# Altium schematic symbol library WG-LOCK.SCHLIB: 34 symbols
Pins are listed as number, name and electrical type; pins without a type are passive.

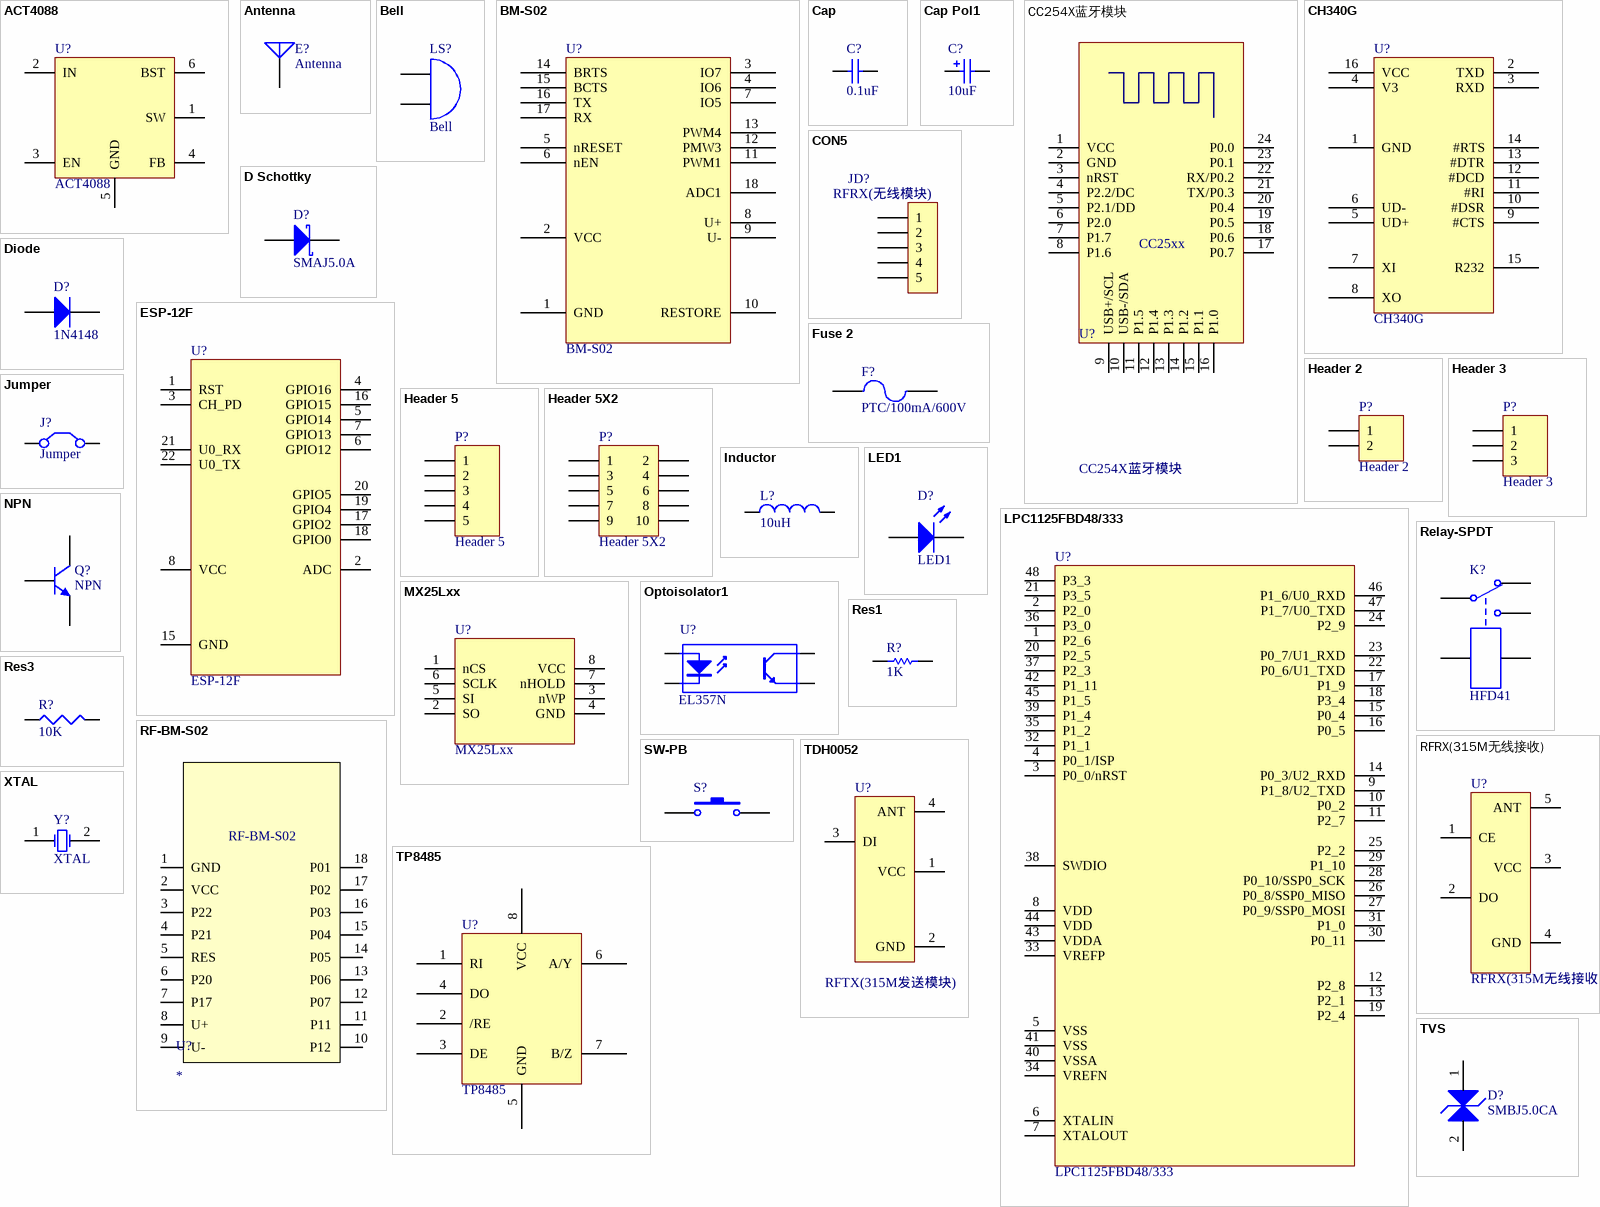
[diagram p0: symbols ACT4088 to XTAL]

## ACT4088
designator U?
footprint SOT23-6l
pins: 1 SW, 2 IN, 3 EN, 4 FB, 5 GND, 6 BST

## Antenna
designator E?
Generic Antenna; Published: 24-Mar-1999; LatestRevisionDate: 17-Jul-2002; LatestRevisionNote: Re-released for DXP Platform.; PackageReference: PIN1; Publisher: Altium Limited
footprint ant
pins: 1 A

## Bell
designator LS?
Electrical Bell; Published: 24-Mar-1999; LatestRevisionDate: 17-Jul-2002; LatestRevisionNote: Re-released for DXP Platform.; PackageReference: PIN2; Publisher: Altium Limited
footprint BZ_D12
pins: 1 A, 2 B

## BM-S02
designator U?
footprint RF-BM-S02
pins: 1 GND, 2 VCC, 3 IO7, 4 IO6, 5 nRESET, 6 nEN, 7 IO5, 8 U+, 9 U-, 10 RESTORE, 11 PWM1, 12 PMW3, 13 PWM4, 14 BRTS, 15 BCTS, 16 TX, 17 RX, 18 ADC1

## Cap
designator C?, comment 0.1uF
Capacitor; Value: 100pF; Published: 8-Jun-2000; LatestRevisionDate: 17-Jul-2002; LatestRevisionNote: Re-released for DXP Platform.; PackageReference: RAD-0.3; Publisher: Altium Limited; PackageDescription: Radial Cap, Thru-Hole; 2 Leads; 0.3 in Pin Spacing
footprint cap_0805 (SMD_CAP_0805)
pins: 1, 2

## Cap Pol1
designator C?, comment 10uF
Polarized Capacitor (Radial); Value: 100pF; Published: 8-Jun-2000; LatestRevisionDate: 17-Jul-2002; LatestRevisionNote: Re-released for DXP Platform.; PackageReference: RB7.6-15; Publisher: Altium Limited; PackageDescription: Polarized Capacitor (Radial); 2 Leads
footprint cap_1206
pins: 1, 2
1 alternate drawing of the same symbol

## CC254X蓝牙模块
designator U?
footprint CC25xx蓝牙模块
pins: 1 VCC, 2 GND, 3 nRST, 4 P2.2/DC, 5 P2.1/DD, 6 P2.0, 7 P1.7, 8 P1.6, 9 USB+/SCL, 10 USB-/SDA, 11 P1.5, 12 P1.4, 13 P1.3, 14 P1.2, 15 P1.1, 16 P1.0, 17 P0.7, 18 P0.6, 19 P0.5, 20 P0.4, 21 TX/P0.3, 22 RX/P0.2, 23 P0.1, 24 P0.0
text: CC25xx

## CH340G
designator U?
footprint SOP16_39MM
pins: 1 GND, 2 TXD, 3 RXD, 4 V3, 5 UD+, 6 UD-, 7 XI, 8 XO, 9 #CTS, 10 #DSR, 11 #RI, 12 #DCD, 13 #DTR, 14 #RTS, 15 R232, 16 VCC

## CON5
designator JD?, comment RFRX(无线模块)
Connector
footprint RFRX
pins: 1, 2, 3, 4, 5

## D Schottky
designator D?, comment SMAJ5.0A
Schottky Diode; Published: 8-Jun-2000; LatestRevisionDate: 17-Jul-2002; LatestRevisionNote: Re-released for DXP Platform.; PackageReference: SMB; Publisher: Altium Limited; PackageDescription: DO-214-AA/SMB; 2 C-Bend Leads; Body 5.3 x 3.6 mm, inc. leads (LxW); Code_JEDEC: DO-214-AA
footprint SMAJ_A
pins: 1 A, 2 K

## Diode
designator D?, comment 1N4148
Default Diode; Published: 8-Jun-2000; LatestRevisionDate: 17-Jul-2002; LatestRevisionNote: Re-released for DXP Platform.; PackageVersion: Sep-1996; PackageReference: SMC; Publisher: Altium Limited; PackageDescription: DO-214-AB/SMC; 2 C-Bend Leads; Body 7.9 x 5.9 mm, inc. leads (LxW); Code_JEDEC: DO-214-AB
footprint 1n4148 (1N4148)
pins: 1 A, 2 K

## ESP-12F
designator U?
footprint WIFI-ESP
pins: 1 RST, 2 ADC, 3 CH_PD, 4 GPIO16, 5 GPIO14, 6 GPIO12, 7 GPIO13, 8 VCC, 15 GND, 16 GPIO15, 17 GPIO2, 18 GPIO0, 19 GPIO4, 20 GPIO5, 21 U0_RX, 22 U0_TX

## Fuse 2
designator F?, comment PTC/100mA/600V
Fuse; Published: 8-Jun-2000; LatestRevisionDate: 17-Jul-2002; LatestRevisionNote: Re-released for DXP Platform.; PackageReference: PIN-W2/E2.8; Publisher: Altium Limited; PackageDescription: Thru-Hole; 2 Leads
footprint SMD_POLYSWITCH
pins: 1, 2

## Header 2
designator P?
Header, 2-Pin; LatestRevisionDate: 17-Jul-2002; LatestRevisionNote: Re-released for DXP Platform.; Publisher: Altium Limited
footprint CN_1X2_P200 (DIP_CN_1X2_P200)
pins: 1, 2

## Header 3
designator P?
Header, 3-Pin; LatestRevisionDate: 17-Jul-2002; LatestRevisionNote: Re-released for DXP Platform.; Publisher: Altium Limited
footprint CN_1X3_P200
pins: 1, 2, 3

## Header 5
designator P?
Header, 5-Pin; LatestRevisionDate: 17-Jul-2002; LatestRevisionNote: Re-released for DXP Platform.; Publisher: Altium Limited
footprint CN_1X5_P200
pins: 1, 2, 3, 4, 5

## Header 5X2
designator P?
Header, 5-Pin, Dual row; LatestRevisionDate: 17-Jul-2002; LatestRevisionNote: Re-released for DXP Platform.; Publisher: Altium Limited
footprint HDR2X5 (Connector; Header; 5x2 Position)
pins: 1, 2, 3, 4, 5, 6, 7, 8, 9, 10

## Inductor
designator L?, comment 10uH
Inductor; Code_IEC: 1005; Value: 10mH; Published: 8-Jun-2000; LatestRevisionDate: 29-May-2009; LatestRevisionNote: IPC-7351 Footprint Added.; PackageReference: 0402-A; Publisher: Altium Limited; PackageDescription: Chip Inductor; Code_JEITA: 0402
footprint SMD_L_3015 (SMD_3015)
footprint INDC1608L (Chip Inductor, Body 1.6x0.8mm, IPC High Density)
footprint 2029 (Chip Inductor, Body 2.0x1.2mm, IPC High Density)
footprint 0603 (Chip Inductor, Body 0.6x0.3mm, IPC High Density)
footprint INDC3216 (Chip Inductor, Body 3.2x1.6mm, IPC High Density)
footprint INDC4532 (Chip Inductor, Body 4.5x3.2mm, IPC High Density)
pins: 1, 2

## Jumper
designator J?
Jumper Wire; Published: 24-Mar-1999; LatestRevisionDate: 17-Jul-2002; LatestRevisionNote: Re-released for DXP Platform.; PackageReference: RAD-0.2; Publisher: Altium Limited; PackageDescription: Radial Cap, Thru-Hole; 2 Leads; 0.2 in Pin Spacing
footprint HDR1X2 (Connector; Header; 2 Position)
pins: 1 C1, 2 C2

## LED1
designator D?
Typical RED GaAs LED; Published: 8-Jun-2000; LatestRevisionDate: 08-Jul-2005; LatestRevisionNote: Mech Layer 1 removed.; PackageReference: LED-1; Publisher: Altium Limited; PackageDescription: LED; 2 Leads
footprint LED - D
pins: 1 A, 2 K

## LPC1125FBD48/333
designator U?
pins: 1 P2_6, 2 P2_0, 3 P0_0/nRST, 4 P0_1/ISP, 5 VSS, 6 XTALIN, 7 XTALOUT, 8 VDD, 9 P1_8/U2_TXD, 10 P0_2, 11 P2_7, 12 P2_8, 13 P2_1, 14 P0_3/U2_RXD, 15 P0_4, 16 P0_5, 17 P1_9, 18 P3_4, 19 P2_4, 20 P2_5, 21 P3_5, 22 P0_6/U1_TXD, 23 P0_7/U1_RXD, 24 P2_9, 25 P2_2, 26 P0_8/SSP0_MISO, 27 P0_9/SSP0_MOSI, 28 P0_10/SSP0_SCK, 29 P1_10, 30 P0_11, 31 P1_0, 32 P1_1, 33 VREFP, 34 VREFN, 35 P1_2, 36 P3_0, 37 P2_3, 38 SWDIO, 39 P1_4, 40 VSSA, 41 VSS, 42 P1_11, 43 VDDA, 44 VDD, 45 P1_5, 46 P1_6/U0_RXD, 47 P1_7/U0_TXD, 48 P3_3

## MX25Lxx
designator U?
footprint SOIC8-50X204
pins: 1 nCS, 2 SO, 3 nWP, 4 GND, 5 SI, 6 SCLK, 7 nHOLD, 8 VCC

## NPN
designator Q?
NPN Bipolar Transistor; Published: 8-Jun-2000; LatestRevisionDate: 17-Jul-2002; LatestRevisionNote: Re-released for DXP Platform.; PackageReference: TO-226-AA; Publisher: Altium Limited; PackageDescription: TO, Flat Index; 3 In-Line, Axial Leads; Body Dia. 4.8mm; Leads 0.55 x 0.51 mm (max); Code_JEDEC: TO-226-AA
footprint SOT23
pins: 1 C, 2 B, 3 E

## Optoisolator1
designator U?, comment EL357N
4-Pin Phototransistor Optocoupler; Published: 24-Mar-1999; LatestRevisionDate: 04-Mar-2005; LatestRevisionNote: Sch pins 3 & 4 Swapped.; DatasheetVersion: Nov-2003; PackageReference: DIP-4; Publisher: Altium Limited
footprint SOP4
pins: 1 A "Anode", 2 K "Cathode", 3 E "Emitter", 4 C "Collector"

## Relay-SPDT
designator K?, comment HFD41
Single-Pole Dual-Throw Relay; Published: 24-Mar-1999; LatestRevisionDate: 17-Jul-2002; LatestRevisionNote: Re-released for DXP Platform.; PackageReference: MODULE5B; Publisher: Altium Limited
footprint HFD23
pins: 1, 2, 3, 4, 5

## Res1
designator R?, comment 1K
Resistor; Published: 8-Jun-2000; LatestRevisionDate: 17-Jul-2002; LatestRevisionNote: Re-released for DXP Platform.; PackageReference: AXIAL-0.3; Publisher: Altium Limited; PackageDescription: Axial Device, Thru-Hole; 2 Leads; 0.3 in Pin Spacing; Value: 1K
footprint RES_0805
pins: 1, 2

## Res3
designator R?, comment 10K
Resistor; Value: 1K; Published: 8-Jun-2000; LatestRevisionDate: 29-May-2009; LatestRevisionNote: IPC-7351 Footprint Added.; PackageReference: J1-0603; Publisher: Altium Limited; PackageDescription: Chip Resistor
footprint RES_0805
footprint 14-1210 (Chip Resistor, Body 3.2x2.5mm, IPC High Density)
footprint 12Z-2010 (Chip Resistor, Body 5.0x2.5mm, IPC High Density)
footprint RESC6332 (Chip Resistor, Body 6.3x3.2mm, IPC High Density)
pins: 1, 2

## RF-BM-S02
designator U?
pins: 1 GND, 2 VCC, 3 P22, 4 P21, 5 RES, 6 P20, 7 P17, 8 U+, 9 U-, 10 P12, 11 P11, 12 P07, 13 P06, 14 P05, 15 P04, 16 P03, 17 P02, 18 P01

## RFRX(315M无线接收)
designator U?
footprint RFRX
pins: 1 CE, 2 DO, 3 VCC, 4 GND, 5 ANT

## SW-PB
designator S?  (value not drawn)
Switch; Published: 24-Mar-1999; LatestRevisionDate: 17-Jul-2002; LatestRevisionNote: Re-released for DXP Platform.; PackageReference: SPST-2; Publisher: Altium Limited; PackageDescription: Switch; 2 Leads
footprint SPST-2 (Switch; 2 Leads)
footprint SW_SMD_2P
pins: 1, 2

## TDH0052
designator U?, comment RFTX(315M发送模块)
footprint RFTX
pins: 1 VCC, 2 GND, 3 DI, 4 ANT

## TP8485
designator U?
footprint SOIC8-50X204
pins: 1 RI, 2 /RE, 3 DE, 4 DO, 5 GND, 6 A/Y, 7 B/Z, 8 VCC

## TVS
designator D?, comment SMBJ5.0CA
footprint SMBJ_CA
pins: 1, 2

## XTAL
designator Y?
Crystal Oscillator; Published: 8-Jun-2000; LatestRevisionDate: 17-Jul-2002; LatestRevisionNote: Re-released for DXP Platform.; PackageReference: R38; Publisher: Altium Limited; PackageDescription: Crystal, Thru-Hole; 2 Leads; Body 3.1 x 8.2 mm (Dia.xH)
footprint XTAL_SMD_5032 (Footprint not found)
pins: 1 OSC1, 2 OSC2